# Altium schematic symbol library Voltage Regulator Schematics.SchLib: 11 symbols
Pins are listed as number, name and electrical type; pins without a type are passive.

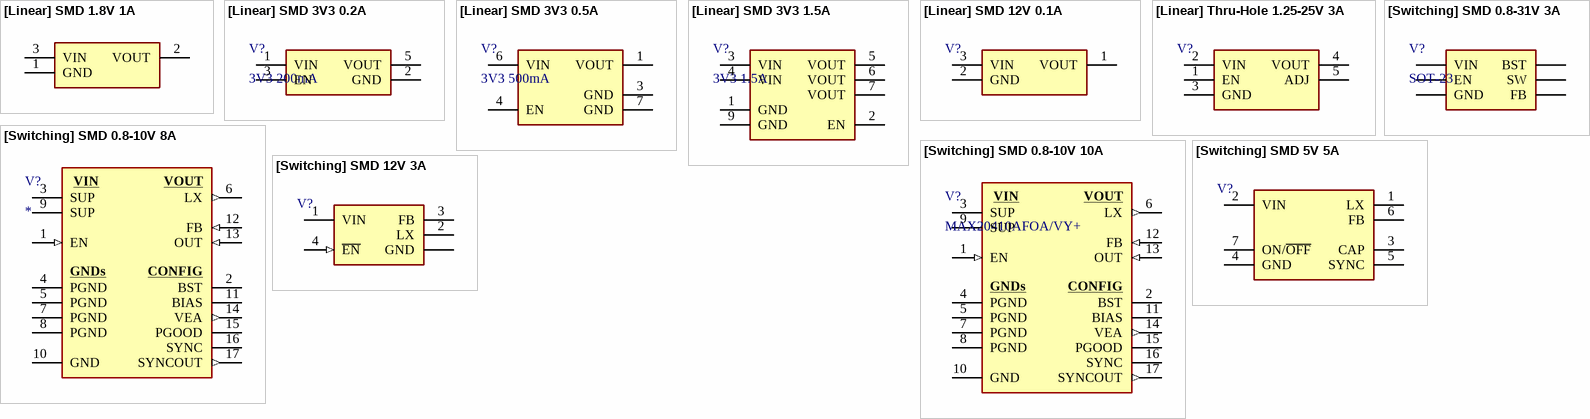
[diagram p0: symbols [Linear] SMD 1.8V 1A to [Switching] SMD 12V 3A]

## [Linear] SMD 1.8V 1A
designator V?  (value not drawn)
NCP1117IST18T3G; Supplier 1: DigiKey; Supplier Part Number 1: 488-NCP1117IST18T3GCT-ND
footprint [Linear] 1.8V 1A (NCP1117IST18T3G)
pins: 1 GND (power), 2 VOUT (power), 3 VIN (power)

## [Linear] SMD 3V3 0.2A
designator V?, comment 3V3 200mA
TCR2EF33,LM(CT; Supplier 1: DigiKey; Supplier Part Number 1: TCR2EF33LM(CTDKR-ND
footprint [Linear] 3V3 0.2A (TCR2EF33,LM(CT)
pins: 1 VIN, 2 GND, 3 EN, 5 VOUT

## [Linear] SMD 3V3 0.5A
designator V?, comment 3V3 500mA
NCV8705MT33TCG; Supplier 1: DigiKey; Supplier Part Number 1: NCV8705MT33TCGOSDKR-ND
footprint [Linear] 3V3 0.5A (NCV8705MT33TCG)
pins: 1 VOUT, 3 GND, 4 EN, 6 VIN, 7 GND

## [Linear] SMD 3V3 1.5A
designator V?, comment 3V3 1.5A
AP7362A-33SP-13; Supplier 1: DigiKey; Supplier Part Number 1: AP7362A-33SP-13DICT-ND
footprint [Linear] 3V3 1.5A
pins: 1 GND, 2 EN, 3 VIN, 4 VIN, 5 VOUT, 6 VOUT, 7 VOUT, 9 GND

## [Linear] SMD 12V 0.1A
designator V?  (value not drawn)
L78L12ACUTR; Supplier 1: DigiKey; Supplier Part Number 1: 497-1195-1-ND
footprint [Linear] SMD 12V 0.1A (L78L12ACUTR)
pins: 1 VOUT (power), 2 GND (power), 3 VIN (power)

## [Linear] Thru-Hole 1.25-25V 3A
designator V?  (value not drawn)
MIC29302WT; Supplier 1: DigiKey; Supplier Part Number 1: 576-1124-ND
footprint [Linear] 1.25-25V 3A
pins: 1 EN (power), 2 VIN (power), 3 GND (power), 4 VOUT (power), 5 ADJ (power)

## [Switching] SMD 0.8-10V 8A
designator V?
MAX20408AFOF/VY+; Supplier 1: DigiKey; Supplier Part Number 1: 505-MAX20408AFOF/VY+-ND
footprint [Switching] 17-PowerWFQFN
pins: 1 EN (in), 2 BST (power) "0", 3 SUP (power), 4 PGND (power), 5 PGND (power), 6 LX (out), 7 PGND (power), 8 PGND (power), 9 SUP (power), 10 GND (power), 11 BIAS (power), 12 FB (in), 13 OUT (in), 14 VEA (out), 15 PGOOD (oc), 16 SYNC, 17 SYNCOUT (out)
text: VIN; VOUT; GNDs; CONFIG

## [Switching] SMD 0.8-10V 10A
designator V?, comment MAX20410AFOA/VY+
Supplier 1: DigiKey; Supplier Part Number 1: 505-MAX20410AFOA/VY+-ND
footprint [Switching] 17-PowerWFQFN
pins: 1 EN (in), 2 BST (power) "0", 3 SUP (power), 4 PGND (power), 5 PGND (power), 6 LX (out), 7 PGND (power), 8 PGND (power), 9 SUP (power), 10 GND (power), 11 BIAS (power), 12 FB (in), 13 OUT (in), 14 VEA (out), 15 PGOOD (oc), 16 SYNC, 17 SYNCOUT (out)
text: VIN; VOUT; GNDs; CONFIG

## [Switching] SMD 0.8-31V 3A
designator V?, comment SOT-23
AP63301WU-7; Supplier 1: DigiKey; Supplier Part Number 1: 31-AP63301WU-7CT-ND
footprint SOT-23
pins: 1 FB, 2 EN, 3 VIN, 4 GND, 5 SW, 6 BST

## [Switching] SMD 5V 5A
designator V?  (value not drawn)
LM2677SX-5.0/NOPB; Supplier 1: DigiKey; Supplier Part Number 1: 296-48568-1-ND
footprint [Switching] SMD 5V 5A (LM2677SX-5.0/NOPB)
pins: 1 LX (power), 2 VIN (power), 3 CAP (power), 4 GND (power), 5 SYNC (power), 6 FB (power), 7 ON/~{OFF} (power)

## [Switching] SMD 12V 3A
designator V?  (value not drawn)
XL1509-12-EV; Supplier 1: DigiKey; Supplier Part Number 1: 5272-XL1509-12-EVCT-ND
footprint [Switching] SMD 12V 3A (XL1509-12-EV)
pins: 1 VIN (power), 2 LX (power), 3 FB (power), 4 ~{EN} (in), 5 GND (power)